# EAGLE library part MIC5305 (library heck)
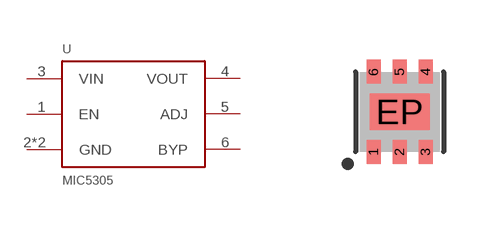
[diagram p46: symbol with the pads of VQFN-6; footprint VQFN-6]

Designator prefix U

## MIC5305ML  [VQFN-6]
1  EN  in
2  GND  pwr
3  VIN  pwr
4  VOUT  sup
5  ADJ  in
6  BYP  in
EP  GND  pwr

## Footprint VQFN-6 (pad centres in mm)
smd 0.35 x 0.6: 1 -0.65,-1; 2 0,-1; 3 0.65,-1; 4 0.65,1; 5 0,1; 6 -0.65,1
smd 1.5 x 0.9: EP 0,0